# Altium footprint library Relay_30A_27.6x32mm 1.PcbLib: 1 footprints
Each footprint in its own frame and in the unit in brackets; x right, y up, seen from the top. Pads: shape width x height; smd on the part's side, far side on the other; paste and mask are expansions set on the pad; w line width, h text height; cw(c..) or ccw(c..) is an arc to the next point about the centre after c.
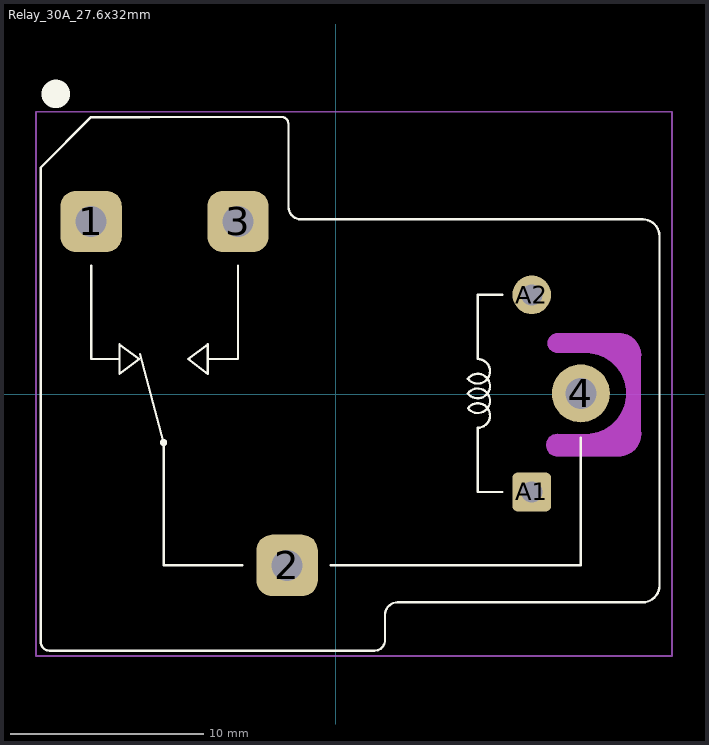
[diagram p0: the footprint, top view; thin cyan lines are the x and y axes]

## Relay_30A_27.6x32mm [mm]
pads (6):
  rrect50% 3.175x3.175 hole 1.6 paste+0 mask+0.102: 1(-12.67,8.94) 2(-2.53,-8.86) 3(-5.07,8.94)
  round 3 hole 1.6 paste-3 mask+0.102: 4(12.67,0.04)
  rrect25% 2x2 hole 1.1 paste+0 mask+0.102: A1(10.13,-5.06)
  round 2 hole 1.1 paste+0 mask+0.102: A2(10.13,5.14)
Top Overlay:
  circle w1.27: c-14.5,15.54 r0.1
  circle w0.12: c-8.92,-2.5 r0.127
  lines w0.12: -15.28,-12.819 -15.28,8.727 ; -15.28,-12.819 ccw(c-14.829,-12.819) -14.829,-13.27 1.989,-13.27 ccw(c1.989,-12.719) 2.54,-12.719 2.54,-11.42 cw(c3.19,-11.42) 3.19,-10.77 15.87,-10.77 ccw(c15.87,-9.9) 16.74,-9.9 16.74,8.18 ccw(c15.87,8.18) 15.87,9.05 -1.81,9.05 cw(c-1.81,9.7) -2.46,9.7 -2.46,13.981 ccw(c-2.829,13.981) -2.829,14.35 -9.657,14.35 ; -15.275,8.715 -15.275,11.735 -12.67,14.34 -9.65,14.34 ; -12.67,6.644 -12.67,1.818 -11.206,1.818 ; -10.139,2.072 -8.92,-2.5 -8.92,-8.86 -4.856,-8.86 ; -6.634,1.818 -5.07,1.818 -5.07,6.644 ; -0.284,-8.86 12.67,-8.86 12.67,-2.246 ; 6.828,-0.722 ccw(c7.336,-0.341) 6.828,0.039 ccw(c7.336,0.421) 6.828,0.801 ; 6.828,-0.722 cw(c7.336,-1.103) 7.336,-1.738 7.336,-5.066 8.606,-5.066 ; 6.828,0.802 ccw(c7.336,1.183) 7.336,1.818 7.336,5.145 8.606,5.145 ; -11.206,1.056 -10.19,1.818 -11.206,2.58 -11.206,1.056 ; -7.65,1.818 -6.634,2.58 -6.634,1.056 -7.65,1.818
Keep-Out Layer:
  board cut-out: 11.386,-3.203 11.273,-3.187 11.075,-3.069 10.937,-2.885 10.881,-2.662 10.914,-2.434 11.032,-2.237 11.216,-2.1 11.439,-2.044 11.553,-2.06 12.943,-2.06 13.148,-2.049 13.549,-1.966 13.926,-1.807 14.266,-1.578 14.554,-1.287 14.781,-0.946 14.937,-0.568 15.016,-0.166 15.016,0.244 14.937,0.645 14.781,1.024 14.554,1.365 14.266,1.656 13.926,1.885 13.549,2.044 13.148,2.126 12.943,2.138 11.475,2.138 11.375,2.138 11.19,2.215 11.048,2.357 10.971,2.542 10.971,2.743 11.048,2.928 11.19,3.07 11.375,3.147 11.475,3.147 14.775,3.147 14.886,3.135 15.098,3.068 15.294,2.961 15.464,2.818 15.603,2.644 15.706,2.446 15.768,2.232 15.788,2.011 15.775,1.9 15.775,-1.9 15.79,-2.013 15.775,-2.242 15.716,-2.463 15.615,-2.668 15.476,-2.849 15.304,-3 15.105,-3.115 14.889,-3.188 14.775,-3.203
Mechanical 1:
  cavity: 11.386,-3.203 11.273,-3.187 11.075,-3.069 10.937,-2.885 10.881,-2.662 10.914,-2.434 11.032,-2.237 11.216,-2.1 11.439,-2.044 11.553,-2.06 12.943,-2.06 13.148,-2.049 13.549,-1.966 13.926,-1.807 14.266,-1.578 14.554,-1.287 14.781,-0.946 14.937,-0.568 15.016,-0.166 15.016,0.244 14.937,0.645 14.781,1.024 14.554,1.365 14.266,1.656 13.926,1.885 13.549,2.044 13.148,2.126 12.943,2.138 11.475,2.138 11.375,2.138 11.19,2.215 11.048,2.357 10.971,2.542 10.971,2.743 11.048,2.928 11.19,3.07 11.375,3.147 11.475,3.147 14.775,3.147 14.886,3.135 15.098,3.068 15.294,2.961 15.464,2.818 15.603,2.644 15.706,2.446 15.768,2.232 15.788,2.011 15.775,1.9 15.775,-1.9 15.79,-2.013 15.775,-2.242 15.716,-2.463 15.615,-2.668 15.476,-2.849 15.304,-3 15.105,-3.115 14.889,-3.188 14.775,-3.203
  lines w0.1: -15.533,-13.549 17.399,-13.549 17.399,14.616 -15.533,14.616 -15.533,-13.549
3D body "Relay_TE_Connectivity_T9AS1L12-24_eec.STEP": height 20.4, standoff -3.71, extent -15.366,-13.166 17.144,14.264